# Altium footprint library PcbLib1.PcbLib: 29 footprints (part 2 of 2)
Each footprint in its own frame and in the unit in brackets; x right, y up, seen from the top. Pads: shape width x height; smd on the part's side, far side on the other; paste and mask are expansions set on the pad; w line width, h text height; cw(c..) or ccw(c..) is an arc to the next point about the centre after c.
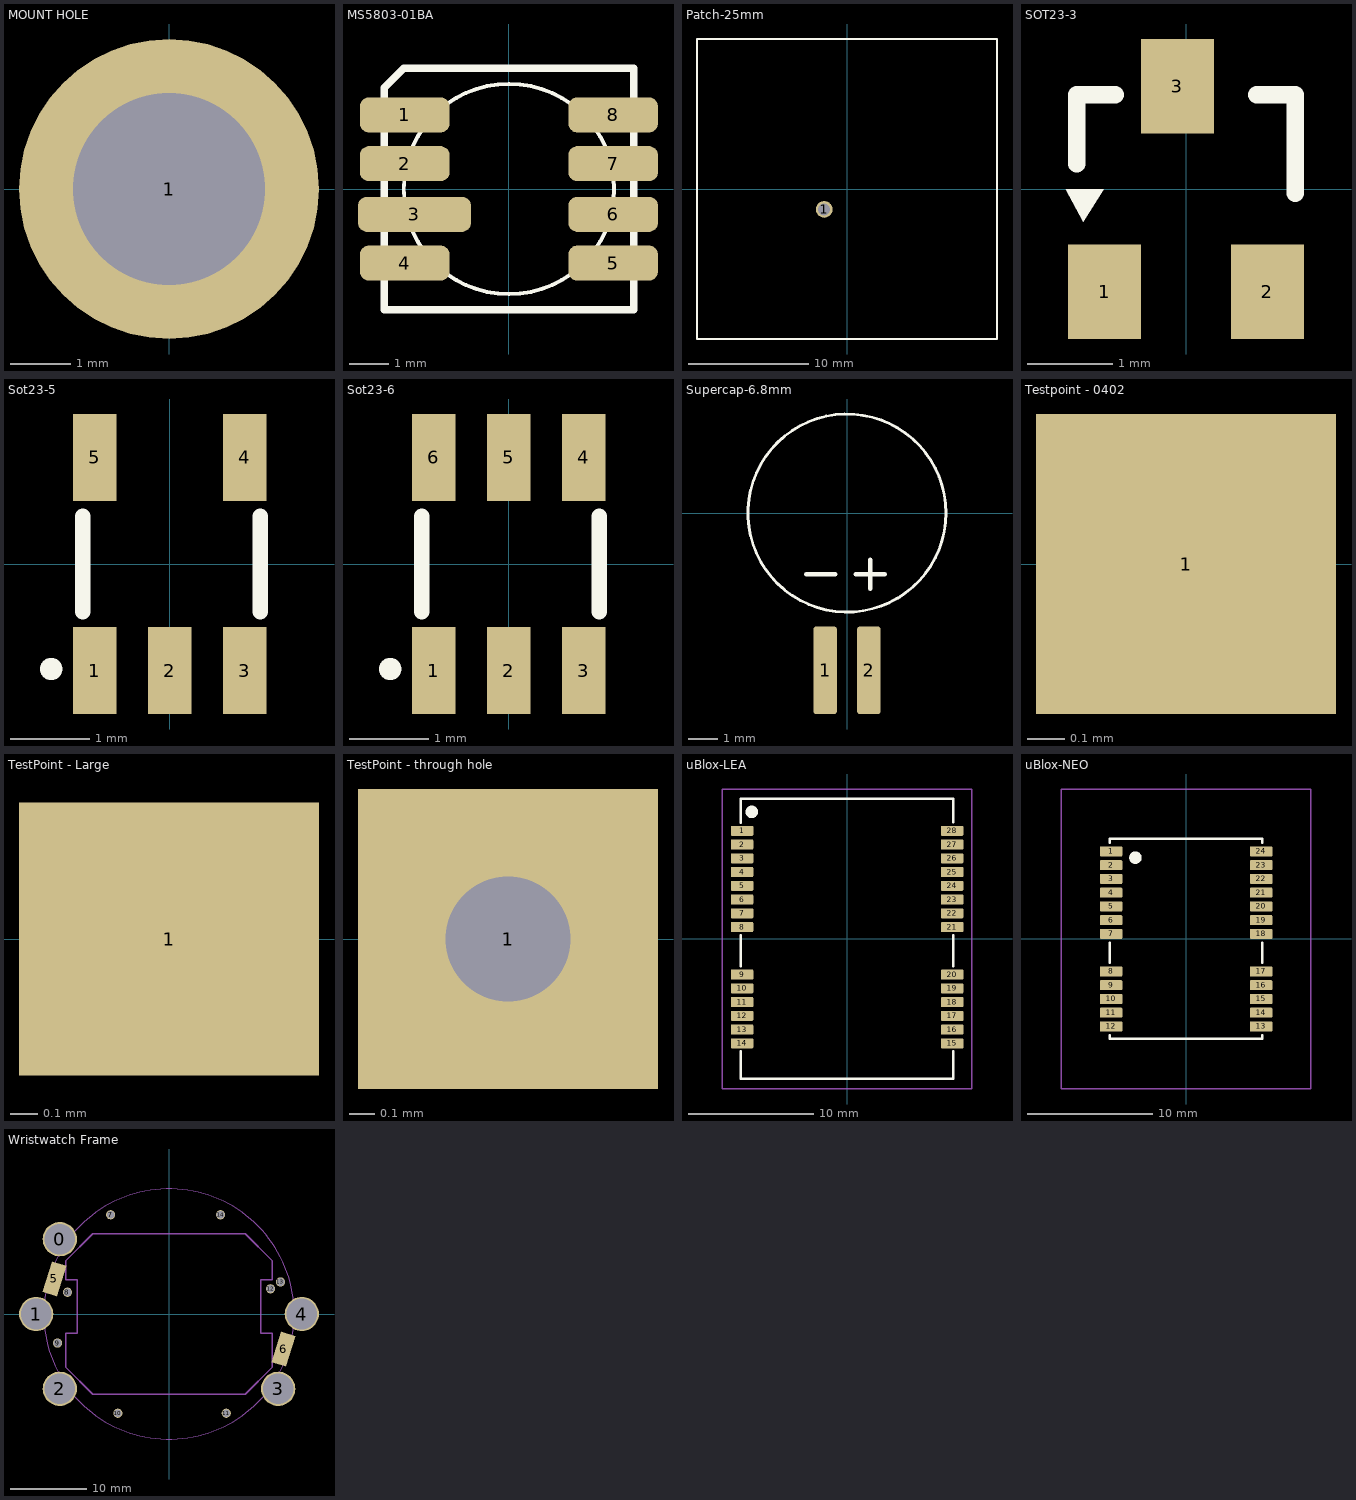
[diagram p1: the footprints below, top view; thin cyan lines are the x and y axes]

## MOUNT HOLE [mm] "3.2mm mount hole"
pads (1):
  round 5 hole 3.2 unplated: 1(0,0)

## MS5803-01BA [mm] "Footprint for pressure sensor"
height 4
pads (8):
  rrect50% 2.3x0.9 smd: 1(-2.675,1.9) 2(-2.675,0.65) 4(-2.675,-1.9) 5(2.675,-1.9) 6(2.675,-0.65) 7(2.675,0.65) 8(2.675,1.9)
  rrect50% 2.9x0.9 smd: 3(-2.425,-0.65)
Top Overlay:
  circle w0.1: c0,0 r2.7
  lines w0.2: -3.2,-3.1 -3.2,2.6 -2.7,3.1 3.2,3.1 3.2,-3.1 -3.2,-3.1

## Patch-25mm [mm] "25 mm Patch antenna, RHCP center pin location."
height 4
pads (1):
  round 1.4 / inner round 1.4 / far side round 2 hole 1: 1(-1.9,-1.7)
Top Overlay:
  lines w0.2: -12.5,-12.5 12.5,-12.5 12.5,12.5 -12.5,12.5 -12.5,-12.5

## SOT23-3 [mm] "SOT-23; 3 Leads; Body 3.0 x 2.6 mm, inc. leads (LxW max)"
height 1.17
pads (3):
  rect 0.85x1.1 smd: 1(-0.95,-1.2) 2(0.95,-1.2) 3(-0.1,1.2)
Top Overlay:
  region: -0.962,0 -1.402,0 -1.197,-0.38
  lines w0.2: -1.275,0.29 -1.275,1.1 -0.825,1.1 ; 0.825,1.1 1.275,1.1 1.275,-0.05

## Sot23-5 [mm] "Sot23-5L For Maxim, body 1.6 wide, pitch 0.95mm. 15th space between pads."
height 1.4
pads (5):
  rect 0.55x1.1 smd: 1(-0.95,-1.35) 2(0,-1.35) 3(0.95,-1.35) 4(0.95,1.35) 5(-0.95,1.35)
Top Overlay:
  circle w0.254: c-1.5,-1.33 r0.014
  lines w0.2: -1.1,-0.6 -1.1,0.6 ; 1.15,-0.6 1.15,0.6

## Sot23-6 [mm] "Sot23-6, body 1.6 wide, pitch 0.95mm. 15th space between pads."
height 1.4
pads (6):
  rect 0.55x1.1 smd: 1(-0.95,-1.35) 2(0,-1.35) 3(0.95,-1.35) 4(0.95,1.35) 5(0,1.35) 6(-0.95,1.35)
Top Overlay:
  circle w0.254: c-1.5,-1.33 r0.014
  lines w0.2: -1.1,-0.6 -1.1,0.6 ; 1.15,-0.6 1.15,0.6

## Supercap-6.8mm [mm] "Elna Supercap or equivelant"
height 1.8
pads (2):
  rrect20% 0.8x3 smd: 1(-0.75,-5.4) 2(0.75,-5.4)
Top Overlay:
  circle w0.1: c0,0 r3.4
  lines w0.152: -1.4,-2.1 -0.4,-2.1 ; 0.3,-2.1 1.3,-2.1 ; 0.8,-2.6 0.8,-1.6

## Testpoint - 0402 [mm]
pads (1):
  rect 0.8x0.8 smd: 1(-0.65,0)

## TestPoint - Large [mm]
pads (1):
  rect 1.1x1 smd: 1(-0.85,0)

## TestPoint - through hole [mm]
pads (1):
  rect 1.2x1.2 / inner round 1 / far side rect 1.2x1.2 hole 0.5 mask+0: 1(-0.85,0)

## uBlox-LEA [mm] "Footprint for uBlox LEA-5H or similar."
height 3
pads (28):
  rrect20% 1.8x0.8 smd: 1(-8.4,8.65) 2(-8.4,7.55) 3(-8.4,6.45) 4(-8.4,5.35) 5(-8.4,4.25) 6(-8.4,3.15) 7(-8.4,2.05) 8(-8.4,0.95) 9(-8.4,-2.85) 10(-8.4,-3.95) 11(-8.4,-5.05) 12(-8.4,-6.15) 13(-8.4,-7.25) 14(-8.4,-8.35) 15(8.4,-8.35) 16(8.4,-7.25) 17(8.4,-6.15) 18(8.4,-5.05) 19(8.4,-3.95) 20(8.4,-2.85) 21(8.4,0.95) 22(8.4,2.05) 23(8.4,3.15) 24(8.4,4.25) 25(8.4,5.35) 26(8.4,6.45) 27(8.4,7.55) 28(8.4,8.65)
Top Overlay:
  circle w0.5: c-7.62,10.16 r0.25
  lines w0.2: -8.5,-9 -8.5,-11.2 8.5,-11.2 8.5,-9 ; -8.5,-2.2 -8.5,0.3 ; -8.5,9.3 -8.5,11.2 8.5,11.2 8.5,9.32 ; 8.5,-2.2 8.5,0.3
Mechanical 15:
  lines w0.1: -10,-12 9.99,-12 9.99,11.99 -10,11.99 -10,-12

## uBlox-NEO [mm] "Footprint for uBlox NEO-5Q or similar."
height 2.4
pads (24):
  rrect20% 1.8x0.8 smd: 1(-6,7) 2(-6,5.9) 3(-6,4.8) 4(-6,3.7) 5(-6,2.6) 6(-6,1.5) 7(-6,0.4) 8(-6,-2.6) 9(-6,-3.7) 10(-6,-4.8) 11(-6,-5.9) 12(-6,-7) 13(6,-7) 14(6,-5.9) 15(6,-4.8) 16(6,-3.7) 17(6,-2.6) 18(6,0.4) 19(6,1.5) 20(6,2.6) 21(6,3.7) 22(6,4.8) 23(6,5.9) 24(6,7)
Top Overlay:
  circle w0.5: c-4.05,6.5 r0.25
  lines w0.2: -6.1,-7.7 -6.1,-8 6.1,-8 6.1,-7.7 ; -6.1,-1.9 -6.1,-0.3 ; -6.1,7.7 -6.1,8 6.1,8 6.1,7.7 ; 6.1,-1.9 6.1,-0.3
Mechanical 15:
  lines w0.1: -10,-12 9.99,-12 9.99,11.99 -10,11.99 -10,-12

## Wristwatch Frame [mm] "Frame mount and buttons for wristwatch"
pads (15):
  round 4.5 hole 4 unplated paste-0.5: 0(-14.3,9.8) 1(-17.4,0) 2(-14.3,-9.8) 3(14.3,-9.8) 4(17.4,0)
  rect 2x4.2 smd rot 163 paste-0.5: 5(-15,4.6) 6(15,-4.6)
  round 1.2 hole 1 unplated: 7(-7.65,13) 8(-13.3,2.85) 9(-14.6,-3.8) 10(-6.7,-13) 11(7.5,-13) 12(13.3,3.3) 13(14.6,4.2) 14(6.75,13)
Mechanical 1:
  circle w0.1: c0,0 r16.4
Mechanical 15:
  lines w0.2: 10,10.5 -10,10.5 -13.5,7 -13.5,4.5 -12,4.5 -12,-2.5 -13.5,-2.5 -13.5,-7 -10,-10.5 10,-10.5 13.5,-7 13.5,-2.5 12,-2.5 12,4.5 13.5,4.5 13.5,7 10,10.5 ; 10,10.5 10,10.5